# Altium footprint library TDKxx-yySzz.PcbLib: 1 footprints
Each footprint in its own frame and in the unit in brackets; x right, y up, seen from the top. Pads: shape width x height; smd on the part's side, far side on the other; paste and mask are expansions set on the pad; w line width, h text height; cw(c..) or ccw(c..) is an arc to the next point about the centre after c.
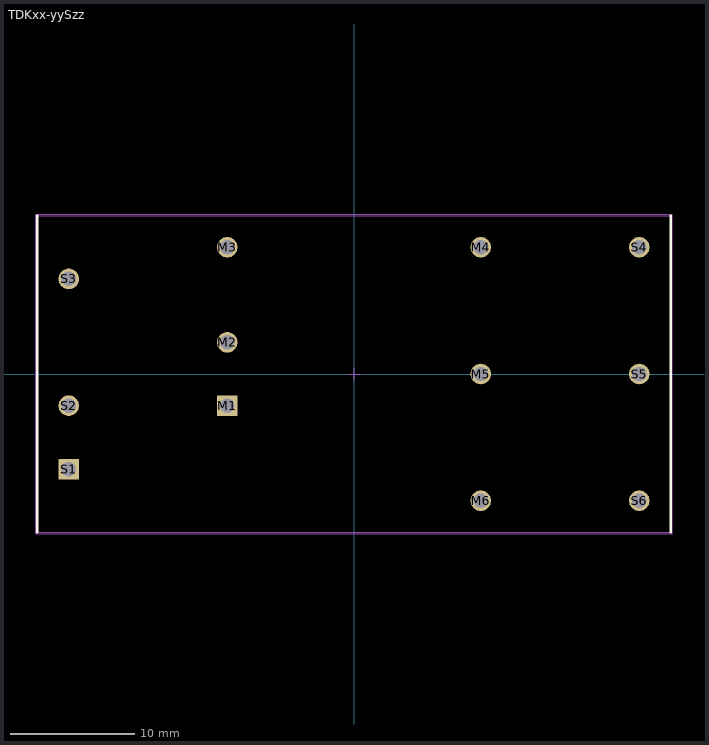
[diagram p0: the footprint, top view; thin cyan lines are the x and y axes]

## TDKxx-yySzz [mm] "DIP, 2x6-Leads"
pads (12):
  rect 1.65x1.65 hole 1.15: M1(-10.16,-2.54) S1(-22.86,-7.62)
  round 1.65 hole 1.15: M2(-10.16,2.54) M3(-10.16,10.16) M4(10.16,10.16) M5(10.16,0) M6(10.16,-10.16) S2(-22.86,-2.54) S3(-22.86,7.62) S4(22.86,10.16) S5(22.86,0) S6(22.86,-10.16)
Top Overlay:
  lines w0.2: -25.4,-12.7 -25.4,12.7 ; 25.4,-12.7 25.4,12.7
Mechanical 13:
  lines w0.1: -25.4,-12.7 25.4,-12.7 25.4,12.7 -25.4,12.7 -25.4,-12.7
Mechanical 15:
  lines w0.05: -25.5,-12.8 -25.5,12.8 25.5,12.8 25.5,-12.8 -25.5,-12.8
  lines w0.1: -0.5,0 0.5,0 ; 0,-0.5 0,0.5